# Altium schematic symbol library U_CC26xxF128RSMR.SchLib: 1 symbol
Pins are listed as number, name and electrical type; pins without a type are passive.

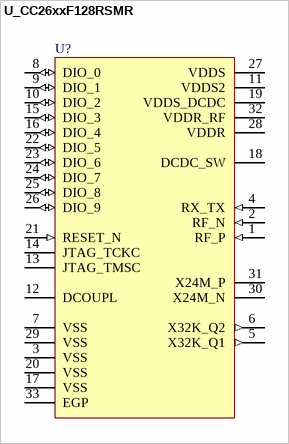
[diagram p0: symbol U_CC26xxF128RSMR]

## U_CC26xxF128RSMR
designator U?
pins: 1 RF_P (in), 2 RF_N (in), 3 VSS (power), 4 RX_TX (in), 5 X32K_Q1 (out), 6 X32K_Q2 (out), 7 VSS (power), 8 DIO_0 (io), 9 DIO_1 (io), 10 DIO_2 (io), 11 VDDS2 (power), 12 DCOUPL, 13 JTAG_TMSC, 14 JTAG_TCKC, 15 DIO_3 (io), 16 DIO_4 (io), 17 VSS (power), 18 DCDC_SW (power), 19 VDDS_DCDC (power), 20 VSS (power), 21 RESET_N (in), 22 DIO_5 (io), 23 DIO_6 (io), 24 DIO_7 (io), 25 DIO_8 (io), 26 DIO_9 (io), 27 VDDS (power), 28 VDDR (power), 29 VSS (power), 30 X24M_N, 31 X24M_P, 32 VDDR_RF (power), 33 EGP (power)